# Altium footprint library SJR-BTM875-E.PcbLib: 1 footprints
Each footprint in its own frame and in the unit in brackets; x right, y up, seen from the top. Pads: shape width x height; smd on the part's side, far side on the other; paste and mask are expansions set on the pad; w line width, h text height; cw(c..) or ccw(c..) is an arc to the next point about the centre after c.
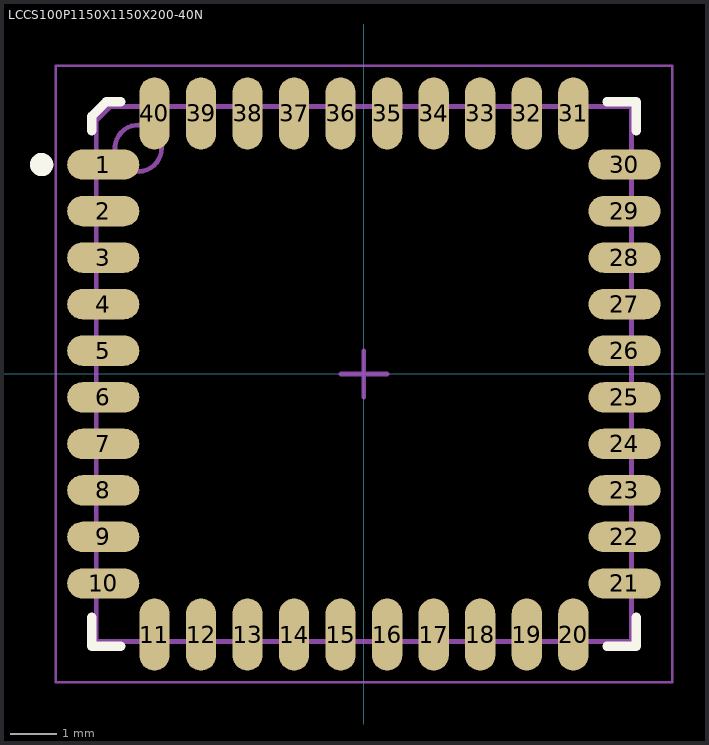
[diagram p0: the footprint, top view; thin cyan lines are the x and y axes]

## LCCS100P1150X1150X200-40N [mm] "LCC, 40-Pins, Body 11.50x11.50mmx2.00mm, Pitch 1.00mm, IPC Medium Density"
height 2
pads (40):
  oval 1.55x0.65 smd: 1(-5.6,4.5) 2(-5.6,3.5) 3(-5.6,2.5) 4(-5.6,1.5) 5(-5.6,0.5) 6(-5.6,-0.5) 7(-5.6,-1.5) 8(-5.6,-2.5) 9(-5.6,-3.5) 10(-5.6,-4.5) 21(5.6,-4.5) 22(5.6,-3.5) 23(5.6,-2.5) 24(5.6,-1.5) 25(5.6,-0.5) 26(5.6,0.5) 27(5.6,1.5) 28(5.6,2.5) 29(5.6,3.5) 30(5.6,4.5)
  oval 0.65x1.55 smd: 11(-4.5,-5.6) 12(-3.5,-5.6) 13(-2.5,-5.6) 14(-1.5,-5.6) 15(-0.5,-5.6) 16(0.5,-5.6) 17(1.5,-5.6) 18(2.5,-5.6) 19(3.5,-5.6) 20(4.5,-5.6) 31(4.5,5.6) 32(3.5,5.6) 33(2.5,5.6) 34(1.5,5.6) 35(0.5,5.6) 36(-0.5,5.6) 37(-1.5,5.6) 38(-2.5,5.6) 39(-3.5,5.6) 40(-4.5,5.6)
Top Overlay:
  circle w0.25: c-6.925,4.5 r0.125
  lines w0.2: -5.85,-5.225 -5.85,-5.85 -5.225,-5.85 ; -5.85,5.225 -5.85,5.537 -5.537,5.85 -5.225,5.85 ; 5.225,-5.85 5.85,-5.85 5.85,-5.225 ; 5.225,5.85 5.85,5.85 5.85,5.225
Mechanical 13:
  circle w0.1: c-4.85,4.85 r0.5
  lines w0.1: -5.75,-5.75 5.75,-5.75 5.75,5.75 -5.437,5.75 -5.75,5.437 -5.75,-5.75
Mechanical 15:
  lines w0.05: -6.625,-6.625 6.625,-6.625 6.625,6.625 -6.625,6.625 -6.625,-6.625
  lines w0.1: -0.5,0 0.5,0 ; 0,-0.5 0,0.5
3D body "LCCS100P1150X1150X200-40N.step": height 2, standoff 0, extent -5.75,-5.75 5.75,5.75